# Altium integrated library Micron Memory Serial NOR Flash.IntLib: 207 symbols (part 1 of 12)
Pins are listed as number, name and electrical type; pins without a type are passive.

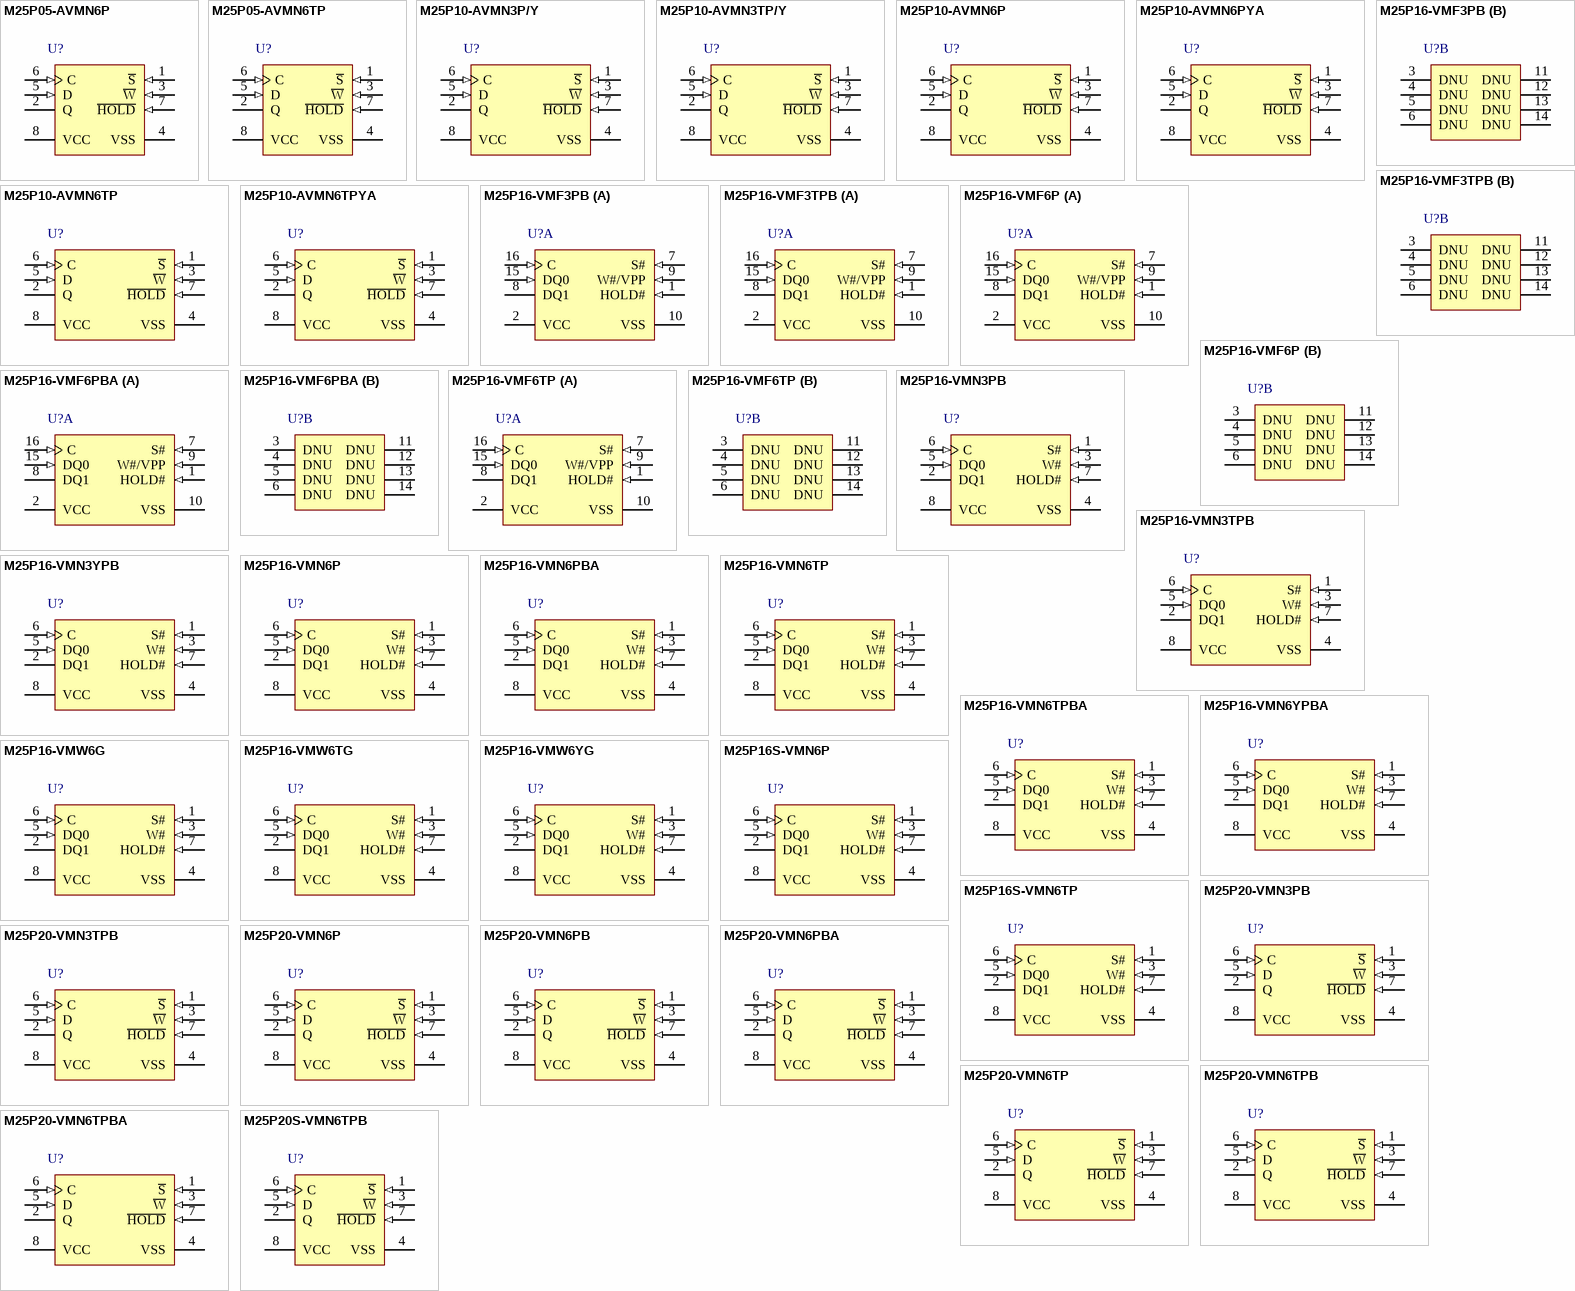
[diagram p0: symbols M25P05-AVMN6P to M25P20S-VMN6TPB]

## M25P05-AVMN6P
designator U?
512K (x1) Serial NOR Flash Memory, 50 MHz, 2.3 to 3.6 V, 8-pin SO8 Narrow (MN), Tube; Part Family: M25P; Manufacturer: Micron; PartNumber: M25P05-AVMN6P; Speed: 50 MHz; Voltage: 2.3V-3.6V; DatasheetVersion: Rev.11; PackageVersion: Rev 11; PackageReference: MICT-MN-8; PackageDescription: 8-Pin SO Narrow, 3.9 X 4.9 mm, Pitch 1.27 mm; Applications: Embedded; Density: 512K; Package: SO8 Narrow; Part Status: Production; RoHS: Yes; Type: Data Storage; Width: x1; Mounting Technology: Surface Mount; ComponentLink1Description: Manufacturer URL; ComponentLink1URL: http://www.micron.com/; ComponentLink2Description: Datasheet; ComponentLink2URL: http://www.micron.com/~/media/Documents/Products/Data%20Sheet/NOR%20Flash/Serial%20NOR/M25P/M25P05A.pdf; ComponentLink3Description: Package Specification; ComponentLink3URL: http://www.micron.com/~/media/Documents/Products/Data%20Sheet/NOR%20Flash/Serial%20NOR/M25P/M25P05A.pdf
footprint MICT-MN-8_N (SOIC, 8-Leads, Body 5x4mm, Pitch 1.27mm, IPC Medium Density)
pins: 1 ~{S} (in) "When this input signal is High, the device is deselected and Serial Data output (Q) is at high impedance. Unless an internal program, erase or write status register cycle is in progress, the device will be in the standby (See Datasheet)", 2 Q (hiz) "This output signal is used to transfer data serially out of the device. Data is shifted out on the falling edge of Serial Clock (C).", 3 ~{W} (in) "The main purpose of this input signal is to freeze the size of the area of memory that is protected against program or erase instructions (as specified by the values in the BP1 and BP0 bits of the status register).", 4 VSS (power) "VSS is the reference for the VCC supply voltage.", 5 D (in) "This input signal is used to transfer data serially into the device. It receives instructions,addresses, and the data to be programmed. Values are latched on the rising edge of Serial Clock (C).", 6 C (in) "This input signal provides the timing of the serial interface. Instructions, addresses, or data present at Serial Data input (D) are latched on the rising edge of Serial Clock (C). Data on Serial Data output (Q) changes (See Datasheet)", 7 ~{HOLD} (in) "The Hold (H\O\L\D\) signal is used to pause any serial communications with the device without deselecting the device. During the Hold condition, the Serial Data output (Q) is high impedance, and Serial Data input (D) and (See Datasheet)", 8 VCC (power) "VCC is the supply voltage."

## M25P05-AVMN6TP
designator U?
512K (x1) Serial NOR Flash Memory, 50 MHz, 2.3 to 3.6 V, 8-pin SO8 Narrow (MN), Tape & Reel; Part Family: M25P; Manufacturer: Micron; PartNumber: M25P05-AVMN6TP; Speed: 50 MHz; Voltage: 2.3V-3.6V; DatasheetVersion: Rev.11; PackageVersion: Rev 11; PackageReference: MICT-MN-8; PackageDescription: 8-Pin SO Narrow, 3.9 X 4.9 mm, Pitch 1.27 mm; Applications: Embedded; Density: 512K; Package: SO8 Narrow; Part Status: Production; RoHS: Yes; Type: Data Storage; Width: x1; Mounting Technology: Surface Mount; ComponentLink1Description: Manufacturer URL; ComponentLink1URL: http://www.micron.com/; ComponentLink2Description: Datasheet; ComponentLink2URL: http://www.micron.com/~/media/Documents/Products/Data%20Sheet/NOR%20Flash/Serial%20NOR/M25P/M25P05A.pdf; ComponentLink3Description: Package Specification; ComponentLink3URL: http://www.micron.com/~/media/Documents/Products/Data%20Sheet/NOR%20Flash/Serial%20NOR/M25P/M25P05A.pdf
footprint MICT-MN-8_N (SOIC, 8-Leads, Body 5x4mm, Pitch 1.27mm, IPC Medium Density)
pins: 1 ~{S} (in) "When this input signal is High, the device is deselected and Serial Data output (Q) is at high impedance. Unless an internal program, erase or write status register cycle is in progress, the device will be in the standby (See Datasheet)", 2 Q (hiz) "This output signal is used to transfer data serially out of the device. Data is shifted out on the falling edge of Serial Clock (C).", 3 ~{W} (in) "The main purpose of this input signal is to freeze the size of the area of memory that is protected against program or erase instructions (as specified by the values in the BP1 and BP0 bits of the status register).", 4 VSS (power) "VSS is the reference for the VCC supply voltage.", 5 D (in) "This input signal is used to transfer data serially into the device. It receives instructions,addresses, and the data to be programmed. Values are latched on the rising edge of Serial Clock (C).", 6 C (in) "This input signal provides the timing of the serial interface. Instructions, addresses, or data present at Serial Data input (D) are latched on the rising edge of Serial Clock (C). Data on Serial Data output (Q) changes (See Datasheet)", 7 ~{HOLD} (in) "The Hold (H\O\L\D\) signal is used to pause any serial communications with the device without deselecting the device. During the Hold condition, the Serial Data output (Q) is high impedance, and Serial Data input (D) and (See Datasheet)", 8 VCC (power) "VCC is the supply voltage."

## M25P10-AVMN3P/Y
designator U?
1 Mb (x1) Automotive Serial NOR Flash Memory, 50 MHz, 2.3 to 3.6 V, 8-pin SO8 Narrow (MN), Tube; Part Family: M25P; Manufacturer: Micron; PartNumber: M25P10-AVMN3P/Y; Density: 1Mb; Speed: 50 MHz; Voltage: 2.3V-3.6V; DatasheetVersion: Rev. 12; PackageVersion: Rev 11; PackageReference: MICT-MN-8; PackageDescription: 8-Pin SO Narrow, 3.9 X 4.9 mm, Pitch 1.27 mm; Applications: Automotive; Package: SO8 Narrow; Part Status: Production; RoHS: Yes; Type: Data Storage; Width: x1; Mounting Technology: Surface Mount; ComponentLink1Description: Manufacturer URL; ComponentLink1URL: http://www.micron.com/; ComponentLink2Description: Datasheet; ComponentLink2URL: http://www.micron.com/~/media/Documents/Products/Data%20Sheet/NOR%20Flash/Serial%20NOR/M25P/M25P10A.pdf; ComponentLink3Description: Package Specification; ComponentLink3URL: http://www.micron.com/~/media/Documents/Products/Data%20Sheet/NOR%20Flash/Serial%20NOR/M25P/M25P05A.pdf
footprint MICT-MN-8_N (SOIC, 8-Leads, Body 5x4mm, Pitch 1.27mm, IPC Medium Density)
pins: 1 ~{S} (in) "When this input signal is High, the device is deselected and Serial Data output (Q) is at high impedance. Unless an internal program, erase or write status register cycle is in progress, the device will be in the standby (See Datasheet)", 2 Q (hiz) "This output signal is used to transfer data serially out of the device. Data is shifted out on the falling edge of Serial Clock (C).", 3 ~{W} (in) "The main purpose of this input signal is to freeze the size of the area of memory that is protected against program or erase instructions (as specified by the values in the BP1 and BP0 bits of the status register).", 4 VSS (power) "VSS is the reference for the VCC supply voltage.", 5 D (in) "This input signal is used to transfer data serially into the device. It receives instructions,addresses, and the data to be programmed. Values are latched on the rising edge of Serial Clock (C).", 6 C (in) "This input signal provides the timing of the serial interface. Instructions, addresses, or data present at Serial Data input (D) are latched on the rising edge of Serial Clock (C). Data on Serial Data output (Q) changes (See Datasheet)", 7 ~{HOLD} (in) "The Hold (H\O\L\D\) signal is used to pause any serial communications with the device without deselecting the device. During the Hold condition, the Serial Data output (Q) is high impedance, and Serial Data input (D) and (See Datasheet)", 8 VCC (power) "VCC is the supply voltage."

## M25P10-AVMN3TP/Y
designator U?
1 Mb (x1) Automotive Serial NOR Flash Memory, 50 MHz, 2.3 to 3.6 V, 8-pin SO8 Narrow (MN), Tape & Reel; Part Family: M25P; Manufacturer: Micron; PartNumber: M25P10-AVMN3TP/Y; Density: 1Mb; Speed: 50 MHz; Voltage: 2.3V-3.6V; DatasheetVersion: Rev. 12; PackageVersion: Rev 11; PackageReference: MICT-MN-8; PackageDescription: 8-Pin SO Narrow, 3.9 X 4.9 mm, Pitch 1.27 mm; Applications: Automotive; Package: SO8 Narrow; Part Status: Production; RoHS: Yes; Type: Data Storage; Width: x1; Mounting Technology: Surface Mount; ComponentLink1Description: Manufacturer URL; ComponentLink1URL: http://www.micron.com/; ComponentLink2Description: Datasheet; ComponentLink2URL: http://www.micron.com/~/media/Documents/Products/Data%20Sheet/NOR%20Flash/Serial%20NOR/M25P/M25P10A.pdf; ComponentLink3Description: Package Specification; ComponentLink3URL: http://www.micron.com/~/media/Documents/Products/Data%20Sheet/NOR%20Flash/Serial%20NOR/M25P/M25P05A.pdf
footprint MICT-MN-8_N (SOIC, 8-Leads, Body 5x4mm, Pitch 1.27mm, IPC Medium Density)
pins: 1 ~{S} (in) "When this input signal is High, the device is deselected and Serial Data output (Q) is at high impedance. Unless an internal program, erase or write status register cycle is in progress, the device will be in the standby (See Datasheet)", 2 Q (hiz) "This output signal is used to transfer data serially out of the device. Data is shifted out on the falling edge of Serial Clock (C).", 3 ~{W} (in) "The main purpose of this input signal is to freeze the size of the area of memory that is protected against program or erase instructions (as specified by the values in the BP1 and BP0 bits of the status register).", 4 VSS (power) "VSS is the reference for the VCC supply voltage.", 5 D (in) "This input signal is used to transfer data serially into the device. It receives instructions,addresses, and the data to be programmed. Values are latched on the rising edge of Serial Clock (C).", 6 C (in) "This input signal provides the timing of the serial interface. Instructions, addresses, or data present at Serial Data input (D) are latched on the rising edge of Serial Clock (C). Data on Serial Data output (Q) changes (See Datasheet)", 7 ~{HOLD} (in) "The Hold (H\O\L\D\) signal is used to pause any serial communications with the device without deselecting the device. During the Hold condition, the Serial Data output (Q) is high impedance, and Serial Data input (D) and (See Datasheet)", 8 VCC (power) "VCC is the supply voltage."

## M25P10-AVMN6P
designator U?
1 Mb (x1) Serial NOR Flash Memory, 50 MHz, 2.3 to 3.6 V, 8-pin SO8 Narrow (MN), Tube; Part Family: M25P; Manufacturer: Micron; PartNumber: M25P10-AVMN6P; Density: 1Mb; Speed: 50 MHz; Voltage: 2.3V-3.6V; DatasheetVersion: Rev. 12; PackageVersion: Rev 11; PackageReference: MICT-MN-8; PackageDescription: 8-Pin SO Narrow, 3.9 X 4.9 mm, Pitch 1.27 mm; Applications: Embedded; Package: SO8 Narrow; Part Status: Production; RoHS: Yes; Type: Data Storage; Width: x1; Mounting Technology: Surface Mount; ComponentLink1Description: Manufacturer URL; ComponentLink1URL: http://www.micron.com/; ComponentLink2Description: Datasheet; ComponentLink2URL: http://www.micron.com/~/media/Documents/Products/Data%20Sheet/NOR%20Flash/Serial%20NOR/M25P/M25P10A.pdf; ComponentLink3Description: Package Specification; ComponentLink3URL: http://www.micron.com/~/media/Documents/Products/Data%20Sheet/NOR%20Flash/Serial%20NOR/M25P/M25P05A.pdf
footprint MICT-MN-8_N (SOIC, 8-Leads, Body 5x4mm, Pitch 1.27mm, IPC Medium Density)
pins: 1 ~{S} (in) "When this input signal is High, the device is deselected and Serial Data output (Q) is at high impedance. Unless an internal program, erase or write status register cycle is in progress, the device will be in the standby (See Datasheet)", 2 Q (hiz) "This output signal is used to transfer data serially out of the device. Data is shifted out on the falling edge of Serial Clock (C).", 3 ~{W} (in) "The main purpose of this input signal is to freeze the size of the area of memory that is protected against program or erase instructions (as specified by the values in the BP1 and BP0 bits of the status register).", 4 VSS (power) "VSS is the reference for the VCC supply voltage.", 5 D (in) "This input signal is used to transfer data serially into the device. It receives instructions,addresses, and the data to be programmed. Values are latched on the rising edge of Serial Clock (C).", 6 C (in) "This input signal provides the timing of the serial interface. Instructions, addresses, or data present at Serial Data input (D) are latched on the rising edge of Serial Clock (C). Data on Serial Data output (Q) changes (See Datasheet)", 7 ~{HOLD} (in) "The Hold (H\O\L\D\) signal is used to pause any serial communications with the device without deselecting the device. During the Hold condition, the Serial Data output (Q) is high impedance, and Serial Data input (D) and (See Datasheet)", 8 VCC (power) "VCC is the supply voltage."

## M25P10-AVMN6PYA
designator U?
1 Mb (x1) Automotive Serial NOR Flash Memory, 50 MHz, 2.3 to 3.6 V, 8-pin SO8 Narrow (MN), Tube; Part Family: M25P; Manufacturer: Micron; PartNumber: M25P10-AVMN6PYA; Density: 1Mb; Speed: 50 MHz; Voltage: 2.3V-3.6V; DatasheetVersion: Rev. 12; PackageVersion: Rev 11; PackageReference: MICT-MN-8; PackageDescription: 8-Pin SO Narrow, 3.9 X 4.9 mm, Pitch 1.27 mm; Applications: Automotive; Package: SO8 Narrow; Part Status: Production; RoHS: Yes; Type: Data Storage; Width: x1; Mounting Technology: Surface Mount; ComponentLink1Description: Manufacturer URL; ComponentLink1URL: http://www.micron.com/; ComponentLink2Description: Datasheet; ComponentLink2URL: http://www.micron.com/~/media/Documents/Products/Data%20Sheet/NOR%20Flash/Serial%20NOR/M25P/M25P10A.pdf; ComponentLink3Description: Package Specification; ComponentLink3URL: http://www.micron.com/~/media/Documents/Products/Data%20Sheet/NOR%20Flash/Serial%20NOR/M25P/M25P05A.pdf
footprint MICT-MN-8_N (SOIC, 8-Leads, Body 5x4mm, Pitch 1.27mm, IPC Medium Density)
pins: 1 ~{S} (in) "When this input signal is High, the device is deselected and Serial Data output (Q) is at high impedance. Unless an internal program, erase or write status register cycle is in progress, the device will be in the standby (See Datasheet)", 2 Q (hiz) "This output signal is used to transfer data serially out of the device. Data is shifted out on the falling edge of Serial Clock (C).", 3 ~{W} (in) "The main purpose of this input signal is to freeze the size of the area of memory that is protected against program or erase instructions (as specified by the values in the BP1 and BP0 bits of the status register).", 4 VSS (power) "VSS is the reference for the VCC supply voltage.", 5 D (in) "This input signal is used to transfer data serially into the device. It receives instructions,addresses, and the data to be programmed. Values are latched on the rising edge of Serial Clock (C).", 6 C (in) "This input signal provides the timing of the serial interface. Instructions, addresses, or data present at Serial Data input (D) are latched on the rising edge of Serial Clock (C). Data on Serial Data output (Q) changes (See Datasheet)", 7 ~{HOLD} (in) "The Hold (H\O\L\D\) signal is used to pause any serial communications with the device without deselecting the device. During the Hold condition, the Serial Data output (Q) is high impedance, and Serial Data input (D) and (See Datasheet)", 8 VCC (power) "VCC is the supply voltage."

## M25P10-AVMN6TP
designator U?
1 Mb (x1) Serial NOR Flash Memory, 50 MHz, 2.3 to 3.6 V, 8-pin SO8 Narrow (MN), Tape & Reel; Part Family: M25P; Manufacturer: Micron; PartNumber: M25P10-AVMN6TP; Density: 1Mb; Speed: 50 MHz; Voltage: 2.3V-3.6V; DatasheetVersion: Rev. 12; PackageVersion: Rev 11; PackageReference: MICT-MN-8; PackageDescription: 8-Pin SO Narrow, 3.9 X 4.9 mm, Pitch 1.27 mm; Applications: Embedded; Package: SO8 Narrow; Part Status: Production; RoHS: Yes; Type: Data Storage; Width: x1; Mounting Technology: Surface Mount; ComponentLink1Description: Manufacturer URL; ComponentLink1URL: http://www.micron.com/; ComponentLink2Description: Datasheet; ComponentLink2URL: http://www.micron.com/~/media/Documents/Products/Data%20Sheet/NOR%20Flash/Serial%20NOR/M25P/M25P10A.pdf; ComponentLink3Description: Package Specification; ComponentLink3URL: http://www.micron.com/~/media/Documents/Products/Data%20Sheet/NOR%20Flash/Serial%20NOR/M25P/M25P05A.pdf
footprint MICT-MN-8_N (SOIC, 8-Leads, Body 5x4mm, Pitch 1.27mm, IPC Medium Density)
pins: 1 ~{S} (in) "When this input signal is High, the device is deselected and Serial Data output (Q) is at high impedance. Unless an internal program, erase or write status register cycle is in progress, the device will be in the standby (See Datasheet)", 2 Q (hiz) "This output signal is used to transfer data serially out of the device. Data is shifted out on the falling edge of Serial Clock (C).", 3 ~{W} (in) "The main purpose of this input signal is to freeze the size of the area of memory that is protected against program or erase instructions (as specified by the values in the BP1 and BP0 bits of the status register).", 4 VSS (power) "VSS is the reference for the VCC supply voltage.", 5 D (in) "This input signal is used to transfer data serially into the device. It receives instructions,addresses, and the data to be programmed. Values are latched on the rising edge of Serial Clock (C).", 6 C (in) "This input signal provides the timing of the serial interface. Instructions, addresses, or data present at Serial Data input (D) are latched on the rising edge of Serial Clock (C). Data on Serial Data output (Q) changes (See Datasheet)", 7 ~{HOLD} (in) "The Hold (H\O\L\D\) signal is used to pause any serial communications with the device without deselecting the device. During the Hold condition, the Serial Data output (Q) is high impedance, and Serial Data input (D) and (See Datasheet)", 8 VCC (power) "VCC is the supply voltage."

## M25P10-AVMN6TPYA
designator U?
1 Mb (x1) Automotive Serial NOR Flash Memory, 50 MHz, 2.3 to 3.6 V, 8-pin SO8 Narrow (MN), Tape & Reel; Part Family: M25P; Manufacturer: Micron; PartNumber: M25P10-AVMN6TPYA; Density: 1Mb; Speed: 50 MHz; Voltage: 2.3V-3.6V; DatasheetVersion: Rev. 12; PackageVersion: Rev 11; PackageReference: MICT-MN-8; PackageDescription: 8-Pin SO Narrow, 3.9 X 4.9 mm, Pitch 1.27 mm; Applications: Automotive; Package: SO8 Narrow; Part Status: Production; RoHS: Yes; Type: Data Storage; Width: x1; Mounting Technology: Surface Mount; ComponentLink1Description: Manufacturer URL; ComponentLink1URL: http://www.micron.com/; ComponentLink2Description: Datasheet; ComponentLink2URL: http://www.micron.com/~/media/Documents/Products/Data%20Sheet/NOR%20Flash/Serial%20NOR/M25P/M25P10A.pdf; ComponentLink3Description: Package Specification; ComponentLink3URL: http://www.micron.com/~/media/Documents/Products/Data%20Sheet/NOR%20Flash/Serial%20NOR/M25P/M25P05A.pdf
footprint MICT-MN-8_N (SOIC, 8-Leads, Body 5x4mm, Pitch 1.27mm, IPC Medium Density)
pins: 1 ~{S} (in) "When this input signal is High, the device is deselected and Serial Data output (Q) is at high impedance. Unless an internal program, erase or write status register cycle is in progress, the device will be in the standby (See Datasheet)", 2 Q (hiz) "This output signal is used to transfer data serially out of the device. Data is shifted out on the falling edge of Serial Clock (C).", 3 ~{W} (in) "The main purpose of this input signal is to freeze the size of the area of memory that is protected against program or erase instructions (as specified by the values in the BP1 and BP0 bits of the status register).", 4 VSS (power) "VSS is the reference for the VCC supply voltage.", 5 D (in) "This input signal is used to transfer data serially into the device. It receives instructions,addresses, and the data to be programmed. Values are latched on the rising edge of Serial Clock (C).", 6 C (in) "This input signal provides the timing of the serial interface. Instructions, addresses, or data present at Serial Data input (D) are latched on the rising edge of Serial Clock (C). Data on Serial Data output (Q) changes (See Datasheet)", 7 ~{HOLD} (in) "The Hold (H\O\L\D\) signal is used to pause any serial communications with the device without deselecting the device. During the Hold condition, the Serial Data output (Q) is high impedance, and Serial Data input (D) and (See Datasheet)", 8 VCC (power) "VCC is the supply voltage."

## M25P16-VMF3PB
designator U?
16 Mb (x1) Automotive Serial NOR Flash Memory, 75 MHz, 2.7 to 3.6 V, 16-pin SO16 Wide (MF), Tube; Part Family: M25P; Manufacturer: Micron; PartNumber: M25P16-VMF3PB; Density: 16Mb; Speed: 75 MHz; Voltage: 2.7V-3.6V; DatasheetVersion: Rev. Y; PackageVersion: Rev. A; PackageReference: MICT-MF-16; PackageDescription: 16-Pin SO Wide, 7.5 X 10.3 mm, Pitch 1.27 mm; Applications: Automotive; Package: SO16 Wide; Part Status: Production; RoHS: Yes; Type: Data Storage; Width: x1; Mounting Technology: Surface Mount; ComponentLink1Description: Manufacturer URL; ComponentLink1URL: http://www.micron.com/; ComponentLink2Description: Datasheet; ComponentLink2URL: http://www.micron.com/~/media/Documents/Products/Data%20Sheet/NOR%20Flash/Serial%20NOR/M25P/M25P16.pdf; ComponentLink3Description: Package Specification; ComponentLink3URL: http://www.micron.com/~/media/Documents/Products/Data%20Sheet/NOR%20Flash/Serial%20NOR/M25P/M25P128.pdf
footprint MICT-MF-16_N (SOIC, 16-Leads, Body 10.5x7.6mm, Pitch 1.27mm, IPC Medium Density)
part A pins: 1 HOLD# (in) "Hold: The HOLD# signal is used to pause any serial communications with the device without deselecting the device. During the hold condition, DQ1 is High-Z. DQ0 and C are "Don’t Care." To start the hold condition, the device (See Datasheet)", 2 VCC (power) "Device core power supply: Source voltage.", 7 S# (in) "Chip select: When the S# input signal is HIGH, the device is deselected and DQ1 is at HIGH impedance. Unless an internal PROGRAM, ERASE, or WRITE STATUS REGISTER cycle is in progress, the device will be in the standby power (See Datasheet)", 8 DQ1 (hiz) "Serial data: The DQ1 output signal is used to transfer data serially out of the device. Data is shifted out on the falling edge of the serial clock (C).", 9 W#/VPP (in) "Write protect: The W# input signal is used to freeze the size of the area of memory that is protected against program or erase commands as specified by the values in BP2, BP1, and BP0 bits of the Status Register.", 10 VSS (power) "Ground: Reference for the VCC supply voltage.", 15 DQ0 (in) "Serial data: The DQ0 input signal is used to transfer data serially into the device. It receives commands, addresses, and the data to be programmed. Values are latched on the rising edge of the serial clock (C).", 16 C (in) "Clock: The C input signal provides the timing of the serial interface. Commands, addresses, or data present at serial data input (DQ0) is latched on the rising edge of the serial clock (C). Data on DQ1 changes after the (See Datasheet)"
part B pins: 3 DNU "Don't Use", 4 DNU "Don't Use", 5 DNU "Don't Use", 6 DNU "Don't Use", 11 DNU "Don't Use", 12 DNU "Don't Use", 13 DNU "Don't Use", 14 DNU "Don't Use"

## M25P16-VMF3TPB
designator U?
16 Mb (x1) Automotive Serial NOR Flash Memory, 75 MHz, 2.7 to 3.6 V, 16-pin SO16 Wide (MF), Tape & Reel; Part Family: M25P; Manufacturer: Micron; PartNumber: M25P16-VMF3TPB; Density: 16Mb; Speed: 75 MHz; Voltage: 2.7V-3.6V; DatasheetVersion: Rev. Y; PackageVersion: Rev. A; PackageReference: MICT-MF-16; PackageDescription: 16-Pin SO Wide, 7.5 X 10.3 mm, Pitch 1.27 mm; Applications: Automotive; Package: SO16 Wide; Part Status: Production; RoHS: Yes; Type: Data Storage; Width: x1; Mounting Technology: Surface Mount; ComponentLink1Description: Manufacturer URL; ComponentLink1URL: http://www.micron.com/; ComponentLink2Description: Datasheet; ComponentLink2URL: http://www.micron.com/~/media/Documents/Products/Data%20Sheet/NOR%20Flash/Serial%20NOR/M25P/M25P16.pdf; ComponentLink3Description: Package Specification; ComponentLink3URL: http://www.micron.com/~/media/Documents/Products/Data%20Sheet/NOR%20Flash/Serial%20NOR/M25P/M25P128.pdf
footprint MICT-MF-16_N (SOIC, 16-Leads, Body 10.5x7.6mm, Pitch 1.27mm, IPC Medium Density)
part A pins: 1 HOLD# (in) "Hold: The HOLD# signal is used to pause any serial communications with the device without deselecting the device. During the hold condition, DQ1 is High-Z. DQ0 and C are "Don’t Care." To start the hold condition, the device (See Datasheet)", 2 VCC (power) "Device core power supply: Source voltage.", 7 S# (in) "Chip select: When the S# input signal is HIGH, the device is deselected and DQ1 is at HIGH impedance. Unless an internal PROGRAM, ERASE, or WRITE STATUS REGISTER cycle is in progress, the device will be in the standby power (See Datasheet)", 8 DQ1 (hiz) "Serial data: The DQ1 output signal is used to transfer data serially out of the device. Data is shifted out on the falling edge of the serial clock (C).", 9 W#/VPP (in) "Write protect: The W# input signal is used to freeze the size of the area of memory that is protected against program or erase commands as specified by the values in BP2, BP1, and BP0 bits of the Status Register.", 10 VSS (power) "Ground: Reference for the VCC supply voltage.", 15 DQ0 (in) "Serial data: The DQ0 input signal is used to transfer data serially into the device. It receives commands, addresses, and the data to be programmed. Values are latched on the rising edge of the serial clock (C).", 16 C (in) "Clock: The C input signal provides the timing of the serial interface. Commands, addresses, or data present at serial data input (DQ0) is latched on the rising edge of the serial clock (C). Data on DQ1 changes after the (See Datasheet)"
part B pins: 3 DNU "Don't Use", 4 DNU "Don't Use", 5 DNU "Don't Use", 6 DNU "Don't Use", 11 DNU "Don't Use", 12 DNU "Don't Use", 13 DNU "Don't Use", 14 DNU "Don't Use"

## M25P16-VMF6P
designator U?
16 Mb (x1) Serial NOR Flash Memory, 75 MHz, 2.7 to 3.6 V, 16-pin SO16 Wide (MF), Tube; Part Family: M25P; Manufacturer: Micron; PartNumber: M25P16-VMF6P; Density: 16Mb; Speed: 75 MHz; Voltage: 2.7V-3.6V; DatasheetVersion: Rev. Y; PackageVersion: Rev. A; PackageReference: MICT-MF-16; PackageDescription: 16-Pin SO Wide, 7.5 X 10.3 mm, Pitch 1.27 mm; Applications: Embedded; Package: SO16 Wide; Part Status: Production; RoHS: Yes; Type: Data Storage; Width: x1; Mounting Technology: Surface Mount; ComponentLink1Description: Manufacturer URL; ComponentLink1URL: http://www.micron.com/; ComponentLink2Description: Datasheet; ComponentLink2URL: http://www.micron.com/~/media/Documents/Products/Data%20Sheet/NOR%20Flash/Serial%20NOR/M25P/M25P16.pdf; ComponentLink3Description: Package Specification; ComponentLink3URL: http://www.micron.com/~/media/Documents/Products/Data%20Sheet/NOR%20Flash/Serial%20NOR/M25P/M25P128.pdf
footprint MICT-MF-16_N (SOIC, 16-Leads, Body 10.5x7.6mm, Pitch 1.27mm, IPC Medium Density)
part A pins: 1 HOLD# (in) "Hold: The HOLD# signal is used to pause any serial communications with the device without deselecting the device. During the hold condition, DQ1 is High-Z. DQ0 and C are "Don’t Care." To start the hold condition, the device (See Datasheet)", 2 VCC (power) "Device core power supply: Source voltage.", 7 S# (in) "Chip select: When the S# input signal is HIGH, the device is deselected and DQ1 is at HIGH impedance. Unless an internal PROGRAM, ERASE, or WRITE STATUS REGISTER cycle is in progress, the device will be in the standby power (See Datasheet)", 8 DQ1 (hiz) "Serial data: The DQ1 output signal is used to transfer data serially out of the device. Data is shifted out on the falling edge of the serial clock (C).", 9 W#/VPP (in) "Write protect: The W# input signal is used to freeze the size of the area of memory that is protected against program or erase commands as specified by the values in BP2, BP1, and BP0 bits of the Status Register.", 10 VSS (power) "Ground: Reference for the VCC supply voltage.", 15 DQ0 (in) "Serial data: The DQ0 input signal is used to transfer data serially into the device. It receives commands, addresses, and the data to be programmed. Values are latched on the rising edge of the serial clock (C).", 16 C (in) "Clock: The C input signal provides the timing of the serial interface. Commands, addresses, or data present at serial data input (DQ0) is latched on the rising edge of the serial clock (C). Data on DQ1 changes after the (See Datasheet)"
part B pins: 3 DNU "Don't Use", 4 DNU "Don't Use", 5 DNU "Don't Use", 6 DNU "Don't Use", 11 DNU "Don't Use", 12 DNU "Don't Use", 13 DNU "Don't Use", 14 DNU "Don't Use"

## M25P16-VMF6PBA
designator U?
16 Mb (x1) Automotive Serial NOR Flash Memory, 75 MHz, 2.7 to 3.6 V, 16-pin SO16 Wide (MF), Tube; Part Family: M25P; Manufacturer: Micron; PartNumber: M25P16-VMF6PBA; Density: 16Mb; Speed: 75 MHz; Voltage: 2.7V-3.6V; DatasheetVersion: Rev. Y; PackageVersion: Rev. A; PackageReference: MICT-MF-16; PackageDescription: 16-Pin SO Wide, 7.5 X 10.3 mm, Pitch 1.27 mm; Applications: Automotive; Package: SO16 Wide; Part Status: Production; RoHS: Yes; Type: Data Storage; Width: x1; Mounting Technology: Surface Mount; ComponentLink1Description: Manufacturer URL; ComponentLink1URL: http://www.micron.com/; ComponentLink2Description: Datasheet; ComponentLink2URL: http://www.micron.com/~/media/Documents/Products/Data%20Sheet/NOR%20Flash/Serial%20NOR/M25P/M25P16.pdf; ComponentLink3Description: Package Specification; ComponentLink3URL: http://www.micron.com/~/media/Documents/Products/Data%20Sheet/NOR%20Flash/Serial%20NOR/M25P/M25P128.pdf
footprint MICT-MF-16_N (SOIC, 16-Leads, Body 10.5x7.6mm, Pitch 1.27mm, IPC Medium Density)
part A pins: 1 HOLD# (in) "Hold: The HOLD# signal is used to pause any serial communications with the device without deselecting the device. During the hold condition, DQ1 is High-Z. DQ0 and C are "Don’t Care." To start the hold condition, the device (See Datasheet)", 2 VCC (power) "Device core power supply: Source voltage.", 7 S# (in) "Chip select: When the S# input signal is HIGH, the device is deselected and DQ1 is at HIGH impedance. Unless an internal PROGRAM, ERASE, or WRITE STATUS REGISTER cycle is in progress, the device will be in the standby power (See Datasheet)", 8 DQ1 (hiz) "Serial data: The DQ1 output signal is used to transfer data serially out of the device. Data is shifted out on the falling edge of the serial clock (C).", 9 W#/VPP (in) "Write protect: The W# input signal is used to freeze the size of the area of memory that is protected against program or erase commands as specified by the values in BP2, BP1, and BP0 bits of the Status Register.", 10 VSS (power) "Ground: Reference for the VCC supply voltage.", 15 DQ0 (in) "Serial data: The DQ0 input signal is used to transfer data serially into the device. It receives commands, addresses, and the data to be programmed. Values are latched on the rising edge of the serial clock (C).", 16 C (in) "Clock: The C input signal provides the timing of the serial interface. Commands, addresses, or data present at serial data input (DQ0) is latched on the rising edge of the serial clock (C). Data on DQ1 changes after the (See Datasheet)"
part B pins: 3 DNU "Don't Use", 4 DNU "Don't Use", 5 DNU "Don't Use", 6 DNU "Don't Use", 11 DNU "Don't Use", 12 DNU "Don't Use", 13 DNU "Don't Use", 14 DNU "Don't Use"

## M25P16-VMF6TP
designator U?
16 Mb (x1) Serial NOR Flash Memory, 75 MHz, 2.7 to 3.6 V, 16-pin SO16 Wide (MF), Tape & Reel; Part Family: M25P; Manufacturer: Micron; PartNumber: M25P16-VMF6TP; Density: 16Mb; Speed: 75 MHz; Voltage: 2.7V-3.6V; DatasheetVersion: Rev. Y; PackageVersion: Rev. A; PackageReference: MICT-MF-16; PackageDescription: 16-Pin SO Wide, 7.5 X 10.3 mm, Pitch 1.27 mm; Applications: Embedded; Package: SO16 Wide; Part Status: Production; RoHS: Yes; Type: Data Storage; Width: x1; Mounting Technology: Surface Mount; ComponentLink1Description: Manufacturer URL; ComponentLink1URL: http://www.micron.com/; ComponentLink2Description: Datasheet; ComponentLink2URL: http://www.micron.com/~/media/Documents/Products/Data%20Sheet/NOR%20Flash/Serial%20NOR/M25P/M25P16.pdf; ComponentLink3Description: Package Specification; ComponentLink3URL: http://www.micron.com/~/media/Documents/Products/Data%20Sheet/NOR%20Flash/Serial%20NOR/M25P/M25P128.pdf
footprint MICT-MF-16_N (SOIC, 16-Leads, Body 10.5x7.6mm, Pitch 1.27mm, IPC Medium Density)
part A pins: 1 HOLD# (in) "Hold: The HOLD# signal is used to pause any serial communications with the device without deselecting the device. During the hold condition, DQ1 is High-Z. DQ0 and C are "Don’t Care." To start the hold condition, the device (See Datasheet)", 2 VCC (power) "Device core power supply: Source voltage.", 7 S# (in) "Chip select: When the S# input signal is HIGH, the device is deselected and DQ1 is at HIGH impedance. Unless an internal PROGRAM, ERASE, or WRITE STATUS REGISTER cycle is in progress, the device will be in the standby power (See Datasheet)", 8 DQ1 (hiz) "Serial data: The DQ1 output signal is used to transfer data serially out of the device. Data is shifted out on the falling edge of the serial clock (C).", 9 W#/VPP (in) "Write protect: The W# input signal is used to freeze the size of the area of memory that is protected against program or erase commands as specified by the values in BP2, BP1, and BP0 bits of the Status Register.", 10 VSS (power) "Ground: Reference for the VCC supply voltage.", 15 DQ0 (in) "Serial data: The DQ0 input signal is used to transfer data serially into the device. It receives commands, addresses, and the data to be programmed. Values are latched on the rising edge of the serial clock (C).", 16 C (in) "Clock: The C input signal provides the timing of the serial interface. Commands, addresses, or data present at serial data input (DQ0) is latched on the rising edge of the serial clock (C). Data on DQ1 changes after the (See Datasheet)"
part B pins: 3 DNU "Don't Use", 4 DNU "Don't Use", 5 DNU "Don't Use", 6 DNU "Don't Use", 11 DNU "Don't Use", 12 DNU "Don't Use", 13 DNU "Don't Use", 14 DNU "Don't Use"

## M25P16-VMN3PB
designator U?
16 Mb (x1) Automotive Serial NOR Flash Memory, 75 MHz, 2.7 to 3.6 V, 8-pin SO8 Narrow (MN), Tube; Part Family: M25P; Manufacturer: Micron; PartNumber: M25P16-VMN3PB; Density: 16Mb; Speed: 75 MHz; Voltage: 2.7V-3.6V; DatasheetVersion: Rev. Y; PackageVersion: Rev 11; PackageReference: MICT-MN-8; PackageDescription: 8-Pin SO Narrow, 3.9 X 4.9 mm, Pitch 1.27 mm; Applications: Automotive; Package: SO8 Narrow; Part Status: Production; RoHS: Yes; Type: Data Storage; Width: x1; Mounting Technology: Surface Mount; ComponentLink1Description: Manufacturer URL; ComponentLink1URL: http://www.micron.com/; ComponentLink2Description: Datasheet; ComponentLink2URL: http://www.micron.com/~/media/Documents/Products/Data%20Sheet/NOR%20Flash/Serial%20NOR/M25P/M25P16.pdf; ComponentLink3Description: Package Specification; ComponentLink3URL: http://www.micron.com/~/media/Documents/Products/Data%20Sheet/NOR%20Flash/Serial%20NOR/M25P/M25P05A.pdf
footprint MICT-MN-8_N (SOIC, 8-Leads, Body 5x4mm, Pitch 1.27mm, IPC Medium Density)
pins: 1 S# (in) "Chip select: When the S# input signal is HIGH, the device is deselected and DQ1 is at HIGH impedance. Unless an internal PROGRAM, ERASE, or WRITE STATUS REGISTER cycle is in progress, the device will be in the standby power (See Datasheet)", 2 DQ1 (hiz) "Serial data: The DQ1 output signal is used to transfer data serially out of the device. Data is shifted out on the falling edge of the serial clock (C).", 3 W# (in) "Write protect: The W# input signal is used to freeze the size of the area of memory that is protected against program or erase commands as specified by the values in BP2, BP1, and BP0 bits of the Status Register.", 4 VSS (power) "Ground: Reference for the VCC supply voltage.", 5 DQ0 (in) "Serial data: The DQ0 input signal is used to transfer data serially into the device. It receives commands, addresses, and the data to be programmed. Values are latched on the rising edge of the serial clock (C).", 6 C (in) "Clock: The C input signal provides the timing of the serial interface. Commands, addresses, or data present at serial data input (DQ0) is latched on the rising edge of the serial clock (C). Data on DQ1 changes after the (See Datasheet)", 7 HOLD# (in) "Hold: The HOLD# signal is used to pause any serial communications with the device without deselecting the device. During the hold condition, DQ1 is High-Z. DQ0 and C are "Don’t Care." To start the hold condition, the device (See Datasheet)", 8 VCC (power) "Device core power supply: Source voltage."

## M25P16-VMN3TPB
designator U?
16 Mb (x1) Automotive Serial NOR Flash Memory, 75 MHz, 2.7 to 3.6 V, 8-pin SO8 Narrow (MN), Tape & Reel; Part Family: M25P; Manufacturer: Micron; PartNumber: M25P16-VMN3TPB; Density: 16Mb; Speed: 75 MHz; Voltage: 2.7V-3.6V; DatasheetVersion: Rev. Y; PackageVersion: Rev 11; PackageReference: MICT-MN-8; PackageDescription: 8-Pin SO Narrow, 3.9 X 4.9 mm, Pitch 1.27 mm; Applications: Automotive; Package: SO8 Narrow; Part Status: Production; RoHS: Yes; Type: Data Storage; Width: x1; Mounting Technology: Surface Mount; ComponentLink1Description: Manufacturer URL; ComponentLink1URL: http://www.micron.com/; ComponentLink2Description: Datasheet; ComponentLink2URL: http://www.micron.com/~/media/Documents/Products/Data%20Sheet/NOR%20Flash/Serial%20NOR/M25P/M25P16.pdf; ComponentLink3Description: Package Specification; ComponentLink3URL: http://www.micron.com/~/media/Documents/Products/Data%20Sheet/NOR%20Flash/Serial%20NOR/M25P/M25P05A.pdf
footprint MICT-MN-8_N (SOIC, 8-Leads, Body 5x4mm, Pitch 1.27mm, IPC Medium Density)
pins: 1 S# (in) "Chip select: When the S# input signal is HIGH, the device is deselected and DQ1 is at HIGH impedance. Unless an internal PROGRAM, ERASE, or WRITE STATUS REGISTER cycle is in progress, the device will be in the standby power (See Datasheet)", 2 DQ1 (hiz) "Serial data: The DQ1 output signal is used to transfer data serially out of the device. Data is shifted out on the falling edge of the serial clock (C).", 3 W# (in) "Write protect: The W# input signal is used to freeze the size of the area of memory that is protected against program or erase commands as specified by the values in BP2, BP1, and BP0 bits of the Status Register.", 4 VSS (power) "Ground: Reference for the VCC supply voltage.", 5 DQ0 (in) "Serial data: The DQ0 input signal is used to transfer data serially into the device. It receives commands, addresses, and the data to be programmed. Values are latched on the rising edge of the serial clock (C).", 6 C (in) "Clock: The C input signal provides the timing of the serial interface. Commands, addresses, or data present at serial data input (DQ0) is latched on the rising edge of the serial clock (C). Data on DQ1 changes after the (See Datasheet)", 7 HOLD# (in) "Hold: The HOLD# signal is used to pause any serial communications with the device without deselecting the device. During the hold condition, DQ1 is High-Z. DQ0 and C are "Don’t Care." To start the hold condition, the device (See Datasheet)", 8 VCC (power) "Device core power supply: Source voltage."

## M25P16-VMN3YPB
designator U?
16 Mb (x1) Automotive Serial NOR Flash Memory, 75 MHz, 2.7 to 3.6 V, 8-pin SO8 Narrow (MN), Tray; Part Family: M25P; Manufacturer: Micron; PartNumber: M25P16-VMN3YPB; Density: 16Mb; Speed: 75 MHz; Voltage: 2.7V-3.6V; DatasheetVersion: Rev. Y; PackageVersion: Rev 11; PackageReference: MICT-MN-8; PackageDescription: 8-Pin SO Narrow, 3.9 X 4.9 mm, Pitch 1.27 mm; Applications: Automotive; Package: SO8 Narrow; Part Status: Production; RoHS: Yes; Type: Data Storage; Width: x1; Mounting Technology: Surface Mount; ComponentLink1Description: Manufacturer URL; ComponentLink1URL: http://www.micron.com/; ComponentLink2Description: Datasheet; ComponentLink2URL: http://www.micron.com/~/media/Documents/Products/Data%20Sheet/NOR%20Flash/Serial%20NOR/M25P/M25P16.pdf; ComponentLink3Description: Package Specification; ComponentLink3URL: http://www.micron.com/~/media/Documents/Products/Data%20Sheet/NOR%20Flash/Serial%20NOR/M25P/M25P05A.pdf
footprint MICT-MN-8_N (SOIC, 8-Leads, Body 5x4mm, Pitch 1.27mm, IPC Medium Density)
pins: 1 S# (in) "Chip select: When the S# input signal is HIGH, the device is deselected and DQ1 is at HIGH impedance. Unless an internal PROGRAM, ERASE, or WRITE STATUS REGISTER cycle is in progress, the device will be in the standby power (See Datasheet)", 2 DQ1 (hiz) "Serial data: The DQ1 output signal is used to transfer data serially out of the device. Data is shifted out on the falling edge of the serial clock (C).", 3 W# (in) "Write protect: The W# input signal is used to freeze the size of the area of memory that is protected against program or erase commands as specified by the values in BP2, BP1, and BP0 bits of the Status Register.", 4 VSS (power) "Ground: Reference for the VCC supply voltage.", 5 DQ0 (in) "Serial data: The DQ0 input signal is used to transfer data serially into the device. It receives commands, addresses, and the data to be programmed. Values are latched on the rising edge of the serial clock (C).", 6 C (in) "Clock: The C input signal provides the timing of the serial interface. Commands, addresses, or data present at serial data input (DQ0) is latched on the rising edge of the serial clock (C). Data on DQ1 changes after the (See Datasheet)", 7 HOLD# (in) "Hold: The HOLD# signal is used to pause any serial communications with the device without deselecting the device. During the hold condition, DQ1 is High-Z. DQ0 and C are "Don’t Care." To start the hold condition, the device (See Datasheet)", 8 VCC (power) "Device core power supply: Source voltage."

## M25P16-VMN6P
designator U?
16 Mb (x1) Serial NOR Flash Memory, 75 MHz, 2.7 to 3.6 V, 8-pin SO8 Narrow (MN), Tube; Part Family: M25P; Manufacturer: Micron; PartNumber: M25P16-VMN6P; Density: 16Mb; Speed: 75 MHz; Voltage: 2.7V-3.6V; DatasheetVersion: Rev. Y; PackageVersion: Rev 11; PackageReference: MICT-MN-8; PackageDescription: 8-Pin SO Narrow, 3.9 X 4.9 mm, Pitch 1.27 mm; Applications: Embedded; Package: SO8 Narrow; Part Status: Production; RoHS: Yes; Type: Data Storage; Width: x1; Mounting Technology: Surface Mount; ComponentLink1Description: Manufacturer URL; ComponentLink1URL: http://www.micron.com/; ComponentLink2Description: Datasheet; ComponentLink2URL: http://www.micron.com/~/media/Documents/Products/Data%20Sheet/NOR%20Flash/Serial%20NOR/M25P/M25P16.pdf; ComponentLink3Description: Package Specification; ComponentLink3URL: http://www.micron.com/~/media/Documents/Products/Data%20Sheet/NOR%20Flash/Serial%20NOR/M25P/M25P05A.pdf
footprint MICT-MN-8_N (SOIC, 8-Leads, Body 5x4mm, Pitch 1.27mm, IPC Medium Density)
pins: 1 S# (in) "Chip select: When the S# input signal is HIGH, the device is deselected and DQ1 is at HIGH impedance. Unless an internal PROGRAM, ERASE, or WRITE STATUS REGISTER cycle is in progress, the device will be in the standby power (See Datasheet)", 2 DQ1 (hiz) "Serial data: The DQ1 output signal is used to transfer data serially out of the device. Data is shifted out on the falling edge of the serial clock (C).", 3 W# (in) "Write protect: The W# input signal is used to freeze the size of the area of memory that is protected against program or erase commands as specified by the values in BP2, BP1, and BP0 bits of the Status Register.", 4 VSS (power) "Ground: Reference for the VCC supply voltage.", 5 DQ0 (in) "Serial data: The DQ0 input signal is used to transfer data serially into the device. It receives commands, addresses, and the data to be programmed. Values are latched on the rising edge of the serial clock (C).", 6 C (in) "Clock: The C input signal provides the timing of the serial interface. Commands, addresses, or data present at serial data input (DQ0) is latched on the rising edge of the serial clock (C). Data on DQ1 changes after the (See Datasheet)", 7 HOLD# (in) "Hold: The HOLD# signal is used to pause any serial communications with the device without deselecting the device. During the hold condition, DQ1 is High-Z. DQ0 and C are "Don’t Care." To start the hold condition, the device (See Datasheet)", 8 VCC (power) "Device core power supply: Source voltage."

## M25P16-VMN6PBA
designator U?
16 Mb (x1) Automotive Serial NOR Flash Memory, 75 MHz, 2.7 to 3.6 V, 8-pin SO8 Narrow (MN), Tube; Part Family: M25P; Manufacturer: Micron; PartNumber: M25P16-VMN6PBA; Density: 16Mb; Speed: 75 MHz; Voltage: 2.7V-3.6V; DatasheetVersion: Rev. Y; PackageVersion: Rev 11; PackageReference: MICT-MN-8; PackageDescription: 8-Pin SO Narrow, 3.9 X 4.9 mm, Pitch 1.27 mm; Applications: Automotive; Package: SO8 Narrow; Part Status: Production; RoHS: Yes; Type: Data Storage; Width: x1; Mounting Technology: Surface Mount; ComponentLink1Description: Manufacturer URL; ComponentLink1URL: http://www.micron.com/; ComponentLink2Description: Datasheet; ComponentLink2URL: http://www.micron.com/~/media/Documents/Products/Data%20Sheet/NOR%20Flash/Serial%20NOR/M25P/M25P16.pdf; ComponentLink3Description: Package Specification; ComponentLink3URL: http://www.micron.com/~/media/Documents/Products/Data%20Sheet/NOR%20Flash/Serial%20NOR/M25P/M25P05A.pdf
footprint MICT-MN-8_N (SOIC, 8-Leads, Body 5x4mm, Pitch 1.27mm, IPC Medium Density)
pins: 1 S# (in) "Chip select: When the S# input signal is HIGH, the device is deselected and DQ1 is at HIGH impedance. Unless an internal PROGRAM, ERASE, or WRITE STATUS REGISTER cycle is in progress, the device will be in the standby power (See Datasheet)", 2 DQ1 (hiz) "Serial data: The DQ1 output signal is used to transfer data serially out of the device. Data is shifted out on the falling edge of the serial clock (C).", 3 W# (in) "Write protect: The W# input signal is used to freeze the size of the area of memory that is protected against program or erase commands as specified by the values in BP2, BP1, and BP0 bits of the Status Register.", 4 VSS (power) "Ground: Reference for the VCC supply voltage.", 5 DQ0 (in) "Serial data: The DQ0 input signal is used to transfer data serially into the device. It receives commands, addresses, and the data to be programmed. Values are latched on the rising edge of the serial clock (C).", 6 C (in) "Clock: The C input signal provides the timing of the serial interface. Commands, addresses, or data present at serial data input (DQ0) is latched on the rising edge of the serial clock (C). Data on DQ1 changes after the (See Datasheet)", 7 HOLD# (in) "Hold: The HOLD# signal is used to pause any serial communications with the device without deselecting the device. During the hold condition, DQ1 is High-Z. DQ0 and C are "Don’t Care." To start the hold condition, the device (See Datasheet)", 8 VCC (power) "Device core power supply: Source voltage."

## M25P16-VMN6TP
designator U?
16 Mb (x1) Serial NOR Flash Memory, 75 MHz, 2.7 to 3.6 V, 8-pin SO8 Narrow (MN), Tape & Reel; Part Family: M25P; Manufacturer: Micron; PartNumber: M25P16-VMN6TP; Density: 16Mb; Speed: 75 MHz; Voltage: 2.7V-3.6V; DatasheetVersion: Rev. Y; PackageVersion: Rev 11; PackageReference: MICT-MN-8; PackageDescription: 8-Pin SO Narrow, 3.9 X 4.9 mm, Pitch 1.27 mm; Applications: Embedded; Package: SO8 Narrow; Part Status: Production; RoHS: Yes; Type: Data Storage; Width: x1; Mounting Technology: Surface Mount; ComponentLink1Description: Manufacturer URL; ComponentLink1URL: http://www.micron.com/; ComponentLink2Description: Datasheet; ComponentLink2URL: http://www.micron.com/~/media/Documents/Products/Data%20Sheet/NOR%20Flash/Serial%20NOR/M25P/M25P16.pdf; ComponentLink3Description: Package Specification; ComponentLink3URL: http://www.micron.com/~/media/Documents/Products/Data%20Sheet/NOR%20Flash/Serial%20NOR/M25P/M25P05A.pdf
footprint MICT-MN-8_N (SOIC, 8-Leads, Body 5x4mm, Pitch 1.27mm, IPC Medium Density)
pins: 1 S# (in) "Chip select: When the S# input signal is HIGH, the device is deselected and DQ1 is at HIGH impedance. Unless an internal PROGRAM, ERASE, or WRITE STATUS REGISTER cycle is in progress, the device will be in the standby power (See Datasheet)", 2 DQ1 (hiz) "Serial data: The DQ1 output signal is used to transfer data serially out of the device. Data is shifted out on the falling edge of the serial clock (C).", 3 W# (in) "Write protect: The W# input signal is used to freeze the size of the area of memory that is protected against program or erase commands as specified by the values in BP2, BP1, and BP0 bits of the Status Register.", 4 VSS (power) "Ground: Reference for the VCC supply voltage.", 5 DQ0 (in) "Serial data: The DQ0 input signal is used to transfer data serially into the device. It receives commands, addresses, and the data to be programmed. Values are latched on the rising edge of the serial clock (C).", 6 C (in) "Clock: The C input signal provides the timing of the serial interface. Commands, addresses, or data present at serial data input (DQ0) is latched on the rising edge of the serial clock (C). Data on DQ1 changes after the (See Datasheet)", 7 HOLD# (in) "Hold: The HOLD# signal is used to pause any serial communications with the device without deselecting the device. During the hold condition, DQ1 is High-Z. DQ0 and C are "Don’t Care." To start the hold condition, the device (See Datasheet)", 8 VCC (power) "Device core power supply: Source voltage."